# Altium integrated library 74VHC4053AFT.IntLib: 1 symbol
Pins are listed as number, name and electrical type; pins without a type are passive.

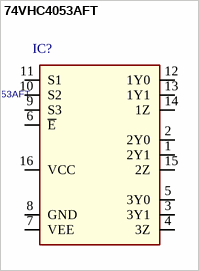
[diagram p0: symbol 74VHC4053AFT]

## 74VHC4053AFT
designator IC?
ID: 74VHC4053AFT; PDF: http://www.semicon.toshiba.co.jp/info/docget.jsp?type=datasheet&lang=en&pid=74VHC4051AFT; PRICE: 0.54000; BUY_LINK: http://www.digikey.com/product-detail/en/74VHC4053AFT/74VHC4053AFTCT-ND/4780920
footprint TSSOP16
pins: 1 2Y1, 2 2Y0, 3 3Y1, 4 3Z, 5 3Y0, 6 ~{E}, 7 VEE, 8 GND, 9 S3, 10 S2, 11 S1, 12 1Y0, 13 1Y1, 14 1Z, 15 2Z, 16 VCC